# EAGLE library part MP5 (library SPCoast)
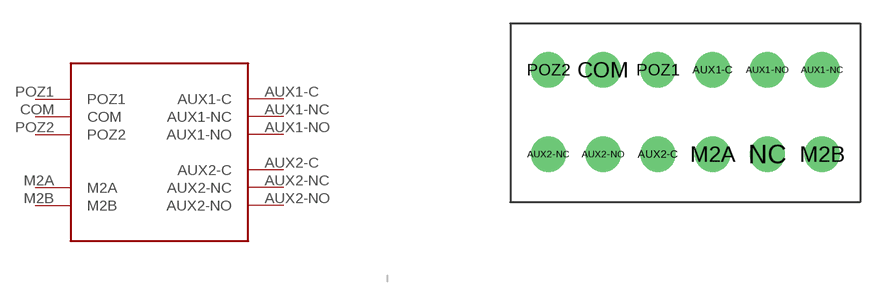
[diagram p57: symbol with the pads of MP5-CONNECTOR; footprint MP5-CONNECTOR]

Designator prefix -

## MP5  [MP5-CONNECTOR]
AUX1-C  AUX1-C
AUX1-NC  AUX1-NC
AUX1-NO  AUX1-NO
AUX2-C  AUX2-C
AUX2-NC  AUX2-NC
AUX2-NO  AUX2-NO
COM  COM
M2A  M2A
M2B  M2B
POZ1  POZ1
POZ2  POZ2

## Footprint MP5-CONNECTOR (pad centres in mm)
drill 1.5: AUX1-C 1.75,2.745; AUX1-NC 8.75,2.745; AUX1-NO 5.25,2.745; AUX2-C -1.75,-2.655; AUX2-NC -8.75,-2.655; AUX2-NO -5.25,-2.655; COM -5.25,2.745; M2A 1.75,-2.655; M2B 8.75,-2.655; NC 5.25,-2.655; POZ1 -1.75,2.745; POZ2 -8.75,2.745